# Altium footprint library HC-49US-SmdCrystal.PcbLib: 1 footprints
Each footprint in its own frame and in the unit in brackets; x right, y up, seen from the top. Pads: shape width x height; smd on the part's side, far side on the other; paste and mask are expansions set on the pad; w line width, h text height; cw(c..) or ccw(c..) is an arc to the next point about the centre after c.
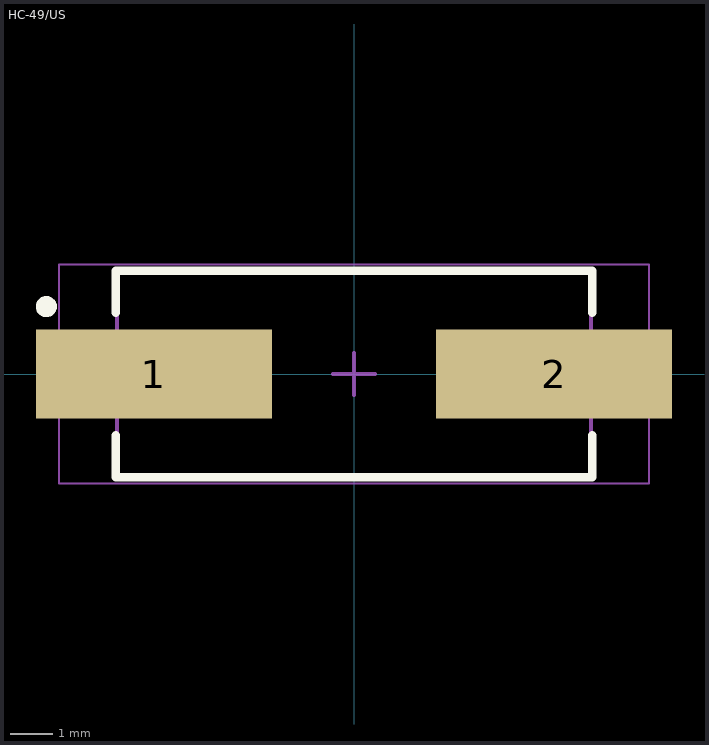
[diagram p0: the footprint, top view; thin cyan lines are the x and y axes]

## HC-49/US [mm] "ABLS-16.000MHZ-B4-T smd crystal"
height 4.2
pads (2):
  rect 5.6x2.1 smd: 1(-4.75,0) 2(4.75,0)
Top Overlay:
  circle w0.25: c-7.3,1.6 r0.125
  lines w0.2: -5.65,-1.45 -5.65,-2.45 5.65,-2.45 5.65,-1.45 ; -5.65,1.45 -5.65,2.45 5.65,2.45 5.65,1.45
Mechanical 13:
  lines w0.1: -5.625,-2.425 5.625,-2.425 5.625,2.425 -5.625,2.425 -5.625,-2.425
Mechanical 15:
  lines w0.05: -7,-2.6 7,-2.6 7,2.6 -7,2.6 -7,-2.6
  lines w0.1: -0.5,0 0.5,0 ; 0,-0.5 0,0.5
3D body: height 4.2, standoff 0, extent -5.625,-2.425 5.625,2.425